# Altium schematic symbol library 1EDC60H12AH.SchLib: 1 symbol
Pins are listed as number, name and electrical type; pins without a type are passive.

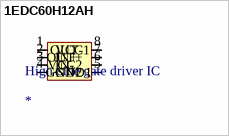
[diagram p0: symbol 1EDC60H12AH]

## 1EDC60H12AH
designator High-side gate driver IC
footprint 1EDC60H12AH
pins: 1 VCC1, 2 IN+, 3 IN-, 4 GND1, 5 GND2, 6 VCC2, 7 OUT+, 8 OUT-